# EAGLE library part NU32-PIC32-MODIFIED (library Final_Project_lib)
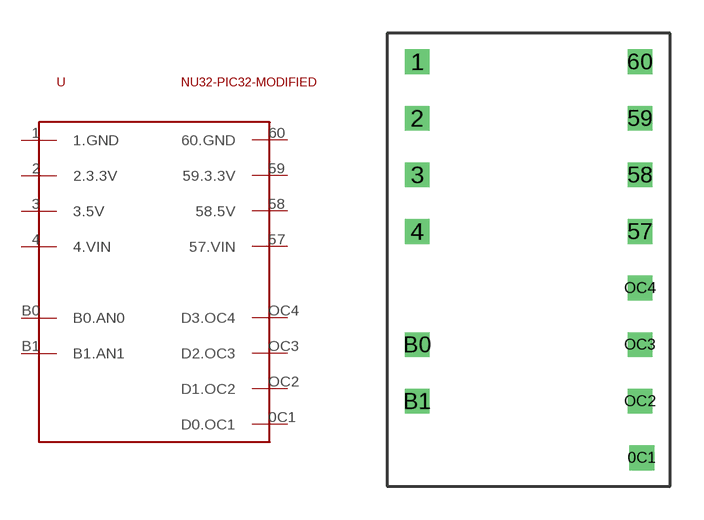
[diagram p10: symbol with the pads of NU32-PIC32-MODIFIED; footprint NU32-PIC32-MODIFIED]

Designator prefix -

## NU32-PIC32-MODIFIED  [NU32-PIC32-MODIFIED]
0C1  D0.OC1
1  1.GND
2  2.3.3V
3  3.5V
4  4.VIN
57  57.VIN
58  58.5V
59  59.3.3V
60  60.GND
B0  B0.AN0
B1  B1.AN1
OC2  D1.OC2
OC3  D2.OC3
OC4  D3.OC4

## Footprint NU32-PIC32-MODIFIED (pad centres in mm)
Small Version of the NU32 with PIC32
drill 0.6 square: 0C1 5.08,-10.16; 1 -5,7.62; 2 -5,5.08; 3 -5,2.54; 4 -5,0; 57 5,0; 58 5,2.54; 59 5,5.08; 60 5,7.62; B0 -5,-5.08; B1 -5,-7.62; OC2 5,-7.62; OC3 5,-5.08; OC4 5,-2.54